# Altium schematic symbol library Oscillator.SchLib: 1 symbol
Pins are listed as number, name and electrical type; pins without a type are passive.

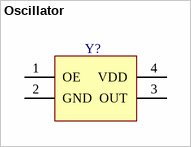
[diagram p0: symbol Oscillator]

## Oscillator
designator Y?  (value not drawn)
Part Field 1: Oscillator; Part Field 2: 3.884760MHz,3.3V,+/-25ppm,-40 to +85C; Part Field 3: 3.2mm x 5mm SMD; Part Field 4: Romax Electronics; Part Field 5: 24425; Part Field 6: 222-1661
footprint Cry 3.2x5
pins: 1 OE, 2 GND, 3 OUT, 4 VDD